# Altium integrated library Diploma_Library.IntLib: 2 symbols
Pins are listed as number, name and electrical type; pins without a type are passive.

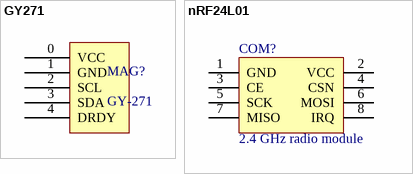
[diagram p0: symbols GY271 to nRF24L01]

## GY271
designator MAG?, comment GY-271
I2C Compass Module Compass Magnet Sensor
footprint GY271; pin to pad 0>VCC 1>GND 2>SCL 3>SDA 4>DRDY
pins: 0 VCC, 1 GND, 2 SCL, 3 SDA, 4 DRDY

## nRF24L01
designator COM?, comment 2.4 GHz radio module
Header, 4-Pin, Dual row; LatestRevisionDate: 17-Jul-2002; LatestRevisionNote: Re-released for DXP Platform.; Publisher: Altium Limited
footprint nRF24L01; pin to pad 1>GND 2>VCC 3>CE 4>CSN 5>SCK 6>MOSI 7>MISO 8>IRQ
pins: 1 GND, 2 VCC, 3 CE, 4 CSN, 5 SCK, 6 MOSI, 7 MISO, 8 IRQ